# Altium footprint library Connector.PcbLib: 1 footprints
Each footprint in its own frame and in the unit in brackets; x right, y up, seen from the top. Pads: shape width x height; smd on the part's side, far side on the other; paste and mask are expansions set on the pad; w line width, h text height; cw(c..) or ccw(c..) is an arc to the next point about the centre after c.
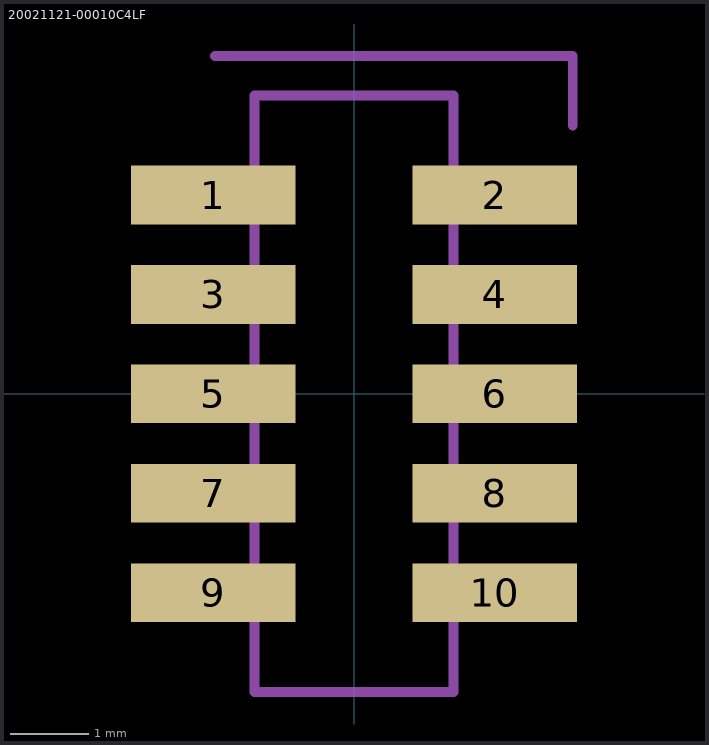
[diagram p0: the footprint, top view; thin cyan lines are the x and y axes]

## 20021121-00010C4LF [mil] "20021121-00010C4LF"
pads (10):
  rect 82.68x29.53 smd: 1(-70.87,100) 2(70.87,100) 3(-70.87,50) 4(70.87,50) 5(-70.87,0) 6(70.87,0) 7(-70.87,-50) 8(70.87,-50) 9(-70.87,-100) 10(70.87,-100)
Mechanical 7:
  lines w5: -70,170 110,170 110,135 ; -50,-150 -50,150 50,150 50,-150 -50,-150
3D body "20021121-00010C4LF.stp": height 216.54, standoff 0, extent -108.26,-127.95 108.27,127.95